# Altium schematic symbol library component.SchLib: 5 symbols
Pins are listed as number, name and electrical type; pins without a type are passive.

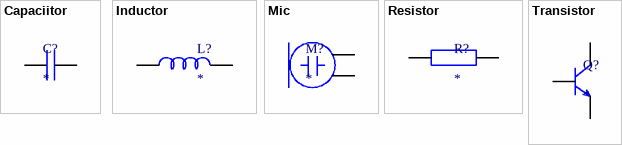
[diagram p0: symbols Capaciitor to Transistor]

## Capaciitor
designator C?
footprint Capacitor-2,5
pins: 1, 2

## Inductor
designator L?
footprint Inductor1
pins: 1, 2

## Mic
designator M?
footprint Mic
pins: 1, 2

## Resistor
designator R?
footprint Resistor
pins: 1, 2

## Transistor
designator Q?
footprint Transistor
pins: 1, 2, 3